# Altium integrated library Various.IntLib: 1 symbol
Pins are listed as number, name and electrical type; pins without a type are passive.

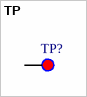
[diagram p0: symbol TP]

## TP
designator TP?, comment Test Point  (value not drawn)
footprint TP_1mm
pins: 1